# EAGLE library part TPS568230 (library wheat)
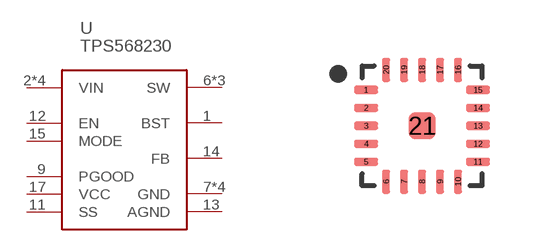
[diagram p262: symbol with the pads of QFN20_3X3; footprint QFN20_3X3]

Designator prefix U

## TPS568230RJE  [QFN20_3X3]
1  BST
2  VIN
3  VIN
4  VIN
5  VIN
6  SW
7  GND
8  GND
9  PGOOD
11  SS
12  EN
13  AGND
14  FB
15  MODE
17  VCC
18  GND
19  SW
20  SW
21  GND

## Footprint QFN20_3X3 (pad centres in mm)
smd 0.6 x 0.2: 1 -1.4,0.9; 2 -1.4,0.45; 3 -1.4,0; 4 -1.4,-0.45; 5 -1.4,-0.9; 11 1.4,-0.9; 12 1.4,-0.45; 13 1.4,0; 14 1.4,0.45; 15 1.4,0.9
smd 0.2 x 0.6: 6 -0.9,-1.4; 7 -0.45,-1.4; 8 0,-1.4; 9 0.45,-1.4; 10 0.9,-1.4; 16 0.9,1.4; 17 0.45,1.4; 18 0,1.4; 19 -0.45,1.4; 20 -0.9,1.4
smd 0.675 x 0.675: 21 0,0